# Altium footprint library Diode-1206.PcbLib: 1 footprints
Each footprint in its own frame and in the unit in brackets; x right, y up, seen from the top. Pads: shape width x height; smd on the part's side, far side on the other; paste and mask are expansions set on the pad; w line width, h text height; cw(c..) or ccw(c..) is an arc to the next point about the centre after c.
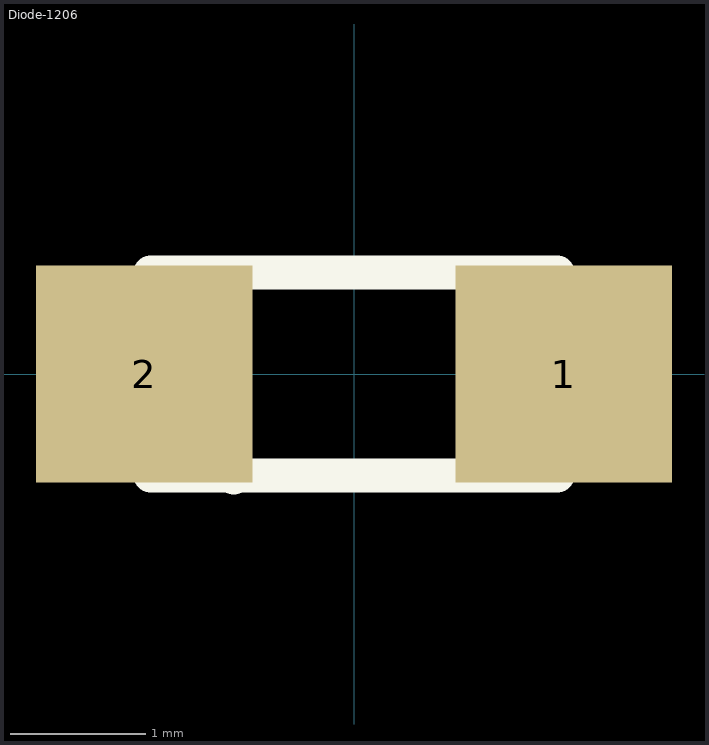
[diagram p0: the footprint, top view; thin cyan lines are the x and y axes]

## Diode-1206 [mm] "LED diode SMD 1206"
pads (2):
  rect 1.6x1.6 smd: 1(1.55,0) 2(-1.55,0)
Top Overlay:
  lines w0.254: -0.889,-0.762 -0.889,0.635 ; -1.5,-0.75 1.5,-0.75 1.5,0.75 -1.5,0.75 -1.5,-0.75
3D body "SMD LED -1206.step": height 1.1, standoff 0, extent -1.65,-0.8 1.55,0.8